# Altium footprint library Alcetronics_EM.PcbLib: 63 footprints (part 3 of 4)
Each footprint in its own frame and in the unit in brackets; x right, y up, seen from the top. Pads: shape width x height; smd on the part's side, far side on the other; paste and mask are expansions set on the pad; w line width, h text height; cw(c..) or ccw(c..) is an arc to the next point about the centre after c.
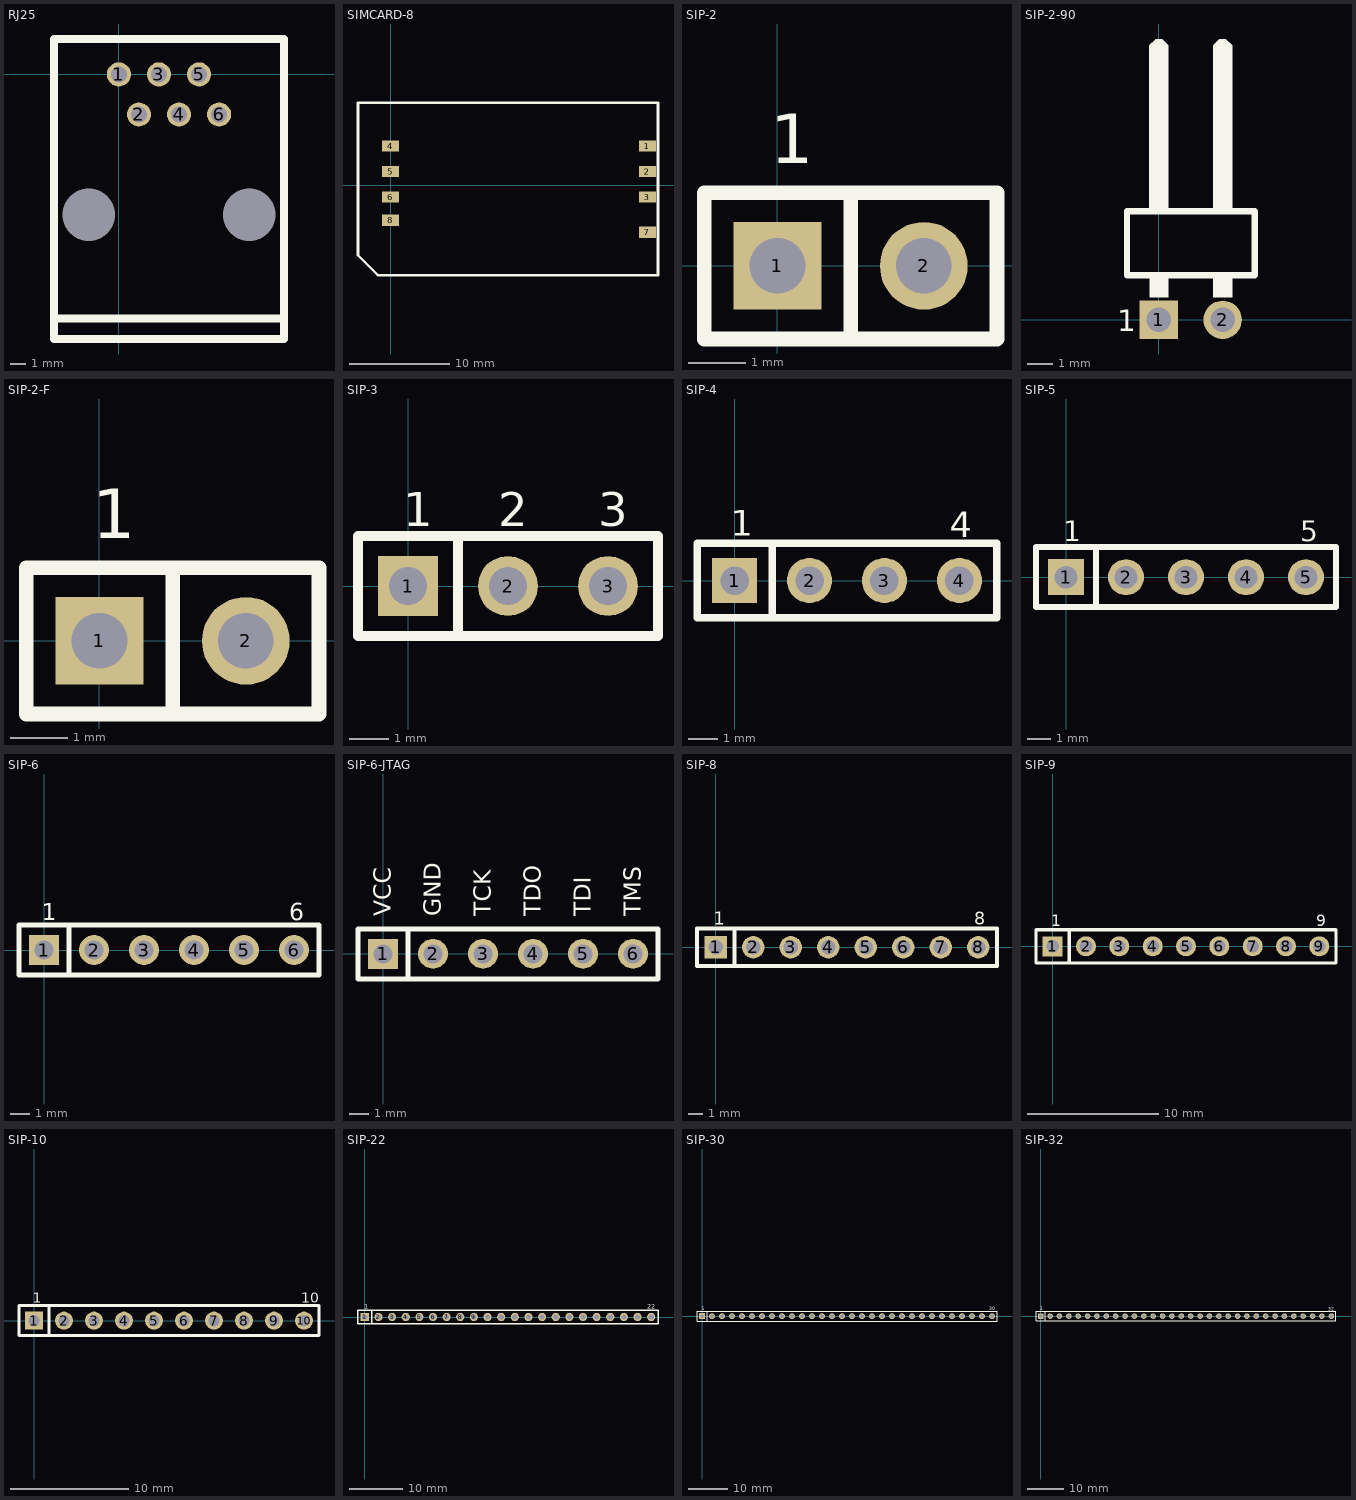
[diagram p2: the footprints below, top view; thin cyan lines are the x and y axes]

## RJ25 [mil]
pads (8):
  round 60 hole 39.37: 1(0,0) 2(50,-100) 3(100,0) 4(150,-100) 5(200,0) 6(250,-100)
  round 127.95 hole 129.92: ""(-75,-350) ""(325,-350)
Top Overlay:
  lines w19.68: -161.42,-608.27 411.42,-608.27 ; -161.42,-659.84 -161.42,88.19 411.42,88.19 411.42,-659.84 -161.42,-659.84

## SIMCARD-8 [mm] "SIM CARD Holder"
height 1.9
pads (8):
  rect 1.7x1.1 smd: 1(25.7,3.9) 2(25.7,1.36) 3(25.7,-1.18) 4(0,3.9) 5(0,1.36) 6(0,-1.18) 7(25.7,-4.7) 8(0,-3.5)
Top Overlay:
  lines w0.254: -3.25,-7 -1.25,-9 26.75,-9 26.75,8.25 -3.25,8.25 -3.25,-7

## SIP-2 [mil]
pads (2):
  rect 60x60 hole 38: 1(0,0)
  round 60 hole 38: 2(100,0)
Top Overlay:
  lines w10: 50,-50 50,50 ; -50,-50 150,-50 150,50 -50,50 -50,-50
  text "1" at -5,70 h34

## SIP-2-90 [mil]
pads (2):
  rect 60x60 hole 38: 1(0,0)
  round 60 hole 38: 2(100,0)
Top Overlay:
  rectangle: 85,35 115,70
  rectangle: -15,35 15,70
  region: 115,170 115,430 105,440 95,440 85,430 85,170
  region: -15,170 -15,430 -5,440 5,440 15,430 15,170
  lines w10: -50,70 -50,170 150,170 150,70 -50,70
  text "1" at -64.96,-17.72 h34

## SIP-2-F [mil]
pads (2):
  rect 60x60 hole 38: 1(0,0)
  round 60 hole 38: 2(100,0)
Top Overlay:
  lines w10: 50,-50 50,50 ; -50,-50 150,-50 150,50 -50,50 -50,-50
  text "1" at -5,70 h34

## SIP-3 [mil]
pads (3):
  rect 60x60 hole 38: 1(0,0)
  round 60 hole 38: 2(100,0) 3(200,0)
Top Overlay:
  lines w10: 50,-50 50,50 ; -50,-50 250,-50 250,50 -50,50 -50,-50
  text "3" at 190,60 h34
  text "1" at -5,60 h34
  text "2" at 90,60 h34

## SIP-4 [mil]
pads (4):
  rect 60x60 hole 38: 1(0,0)
  round 60 hole 38: 2(100,0) 3(200,0) 4(300,0)
Top Overlay:
  lines w10: 50,-50 50,50 ; -50,-50 -50,50 350,50 350,-50 -50,-50
  text "4" at 287,58 h34
  text "1" at -5,60 h34

## SIP-5 [mil]
pads (5):
  rect 60x60 hole 38: 1(0,0)
  round 60 hole 38: 2(100,0) 3(200,0) 4(300,0) 5(400,0)
Top Overlay:
  lines w10: 50,-50 50,50 ; -50,-50 -50,50 450,50 450,-50 -50,-50
  text "5" at 390,60 h34
  text "1" at -5,60 h34

## SIP-6 [mil]
pads (6):
  rect 60x60 hole 38: 1(0,0)
  round 60 hole 38: 2(100,0) 3(200,0) 4(300,0) 5(400,0) 6(500,0)
Top Overlay:
  lines w10: 50,-50 50,50 ; -50,-50 -50,50 550,50 550,-50 -50,-50
  text "1" at -5,60 h34
  text "6" at 490,60 h34

## SIP-6-JTAG [mil] "JTAG Connector"
pads (6):
  rect 60x60 hole 38: 1(0,0)
  round 60 hole 38: 2(100,0) 3(200,0) 4(300,0) 5(400,0) 6(500,0)
Top Overlay:
  lines w10: 50,-50 50,50 ; -50,-50 550,-50 550,50 -50,50 -50,-50
  text "TMS" at 515,75 h34
  text "TDI" at 415,75 h34
  text "TDO" at 315,75 h34
  text "TCK" at 215,75 h34
  text "GND" at 115,75 h34
  text "VCC" at 15,75 h34

## SIP-8 [mil]
pads (8):
  rect 60x60 hole 38: 1(0,0)
  round 60 hole 38: 2(100,0) 3(200,0) 4(300,0) 5(400,0) 6(500,0) 7(600,0) 8(700,0)
Top Overlay:
  lines w10: 50,-50 50,50 ; -50,-50 -50,50 750,50 750,-50 -50,-50
  text "1" at -5,60 h34
  text "8" at 690,60 h34

## SIP-9 [mil]
pads (9):
  rect 60x60 hole 38: 1(0,0)
  round 60 hole 38: 2(100,0) 3(200,0) 4(300,0) 5(400,0) 6(500,0) 7(600,0) 8(700,0) 9(800,0)
Top Overlay:
  lines w10: 50,-50 50,50 ; -50,-50 -50,50 850,50 850,-50 -50,-50
  text "9" at 790,60 h34
  text "1" at -5,60 h34

## SIP-10 [mil]
pads (10):
  rect 60x60 hole 38: 1(0,0)
  round 60 hole 38: 2(100,0) 3(200,0) 4(300,0) 5(400,0) 6(500,0) 7(600,0) 8(700,0) 9(800,0) 10(900,0)
Top Overlay:
  lines w10: 50,-50 50,50 ; -50,-50 -50,50 950,50 950,-50 -50,-50
  text "1" at -5,60 h34
  text "10" at 890,60 h34

## SIP-22 [mil]
pads (22):
  rect 60x60 hole 38: 1(0,0)
  round 60 hole 38: 2(100,0) 3(200,0) 4(300,0) 5(400,0) 6(500,0) 7(600,0) 8(700,0) 9(800,0) 10(900,0) 11(1000,0) 12(1100,0) 13(1200,0) 14(1300,0) 15(1400,0) 16(1500,0) 17(1600,0) 18(1700,0) 19(1800,0) 20(1900,0) 21(2000,0) 22(2100,0)
Top Overlay:
  lines w10: 50,-50 50,50 ; -50,-50 -50,50 2150,50 2150,-50 -50,-50
  text "22" at 2070,60 h34
  text "1" at -5,60 h34

## SIP-30 [mil]
pads (30):
  rect 60x60 hole 38: 1(0,0)
  round 60 hole 38: 2(100,0) 3(200,0) 4(300,0) 5(400,0) 6(500,0) 7(600,0) 8(700,0) 9(800,0) 10(900,0) 11(1000,0) 12(1100,0) 13(1200,0) 14(1300,0) 15(1400,0) 16(1500,0) 17(1600,0) 18(1700,0) 19(1800,0) 20(1900,0) 21(2000,0) 22(2100,0) 23(2200,0) 24(2300,0) 25(2400,0) 26(2500,0) 27(2600,0) 28(2700,0) 29(2800,0) 30(2900,0)
Top Overlay:
  lines w10: 50,-50 50,50 ; -50,-50 -50,50 2950,50 2950,-50 -50,-50
  text "30" at 2870,60 h34
  text "1" at -5,60 h34

## SIP-32 [mil]
pads (32):
  rect 60x60 hole 38: 1(0,0)
  round 60 hole 38: 2(100,0) 3(200,0) 4(300,0) 5(400,0) 6(500,0) 7(600,0) 8(700,0) 9(800,0) 10(900,0) 11(1000,0) 12(1100,0) 13(1200,0) 14(1300,0) 15(1400,0) 16(1500,0) 17(1600,0) 18(1700,0) 19(1800,0) 20(1900,0) 21(2000,0) 22(2100,0) 23(2200,0) 24(2300,0) 25(2400,0) 26(2500,0) 27(2600,0) 28(2700,0) 29(2800,0) 30(2900,0) 31(3000,-1) 32(3100,-1)
Top Overlay:
  lines w10: 50,-50 50,50 ; -50,-50 3150,-50 3150,50 -50,50 -50,-50
  text "1" at -5,60 h34
  text "32" at 3069,59 h34